# EAGLE library part MX4660-CN10 (library mx4660-cape)
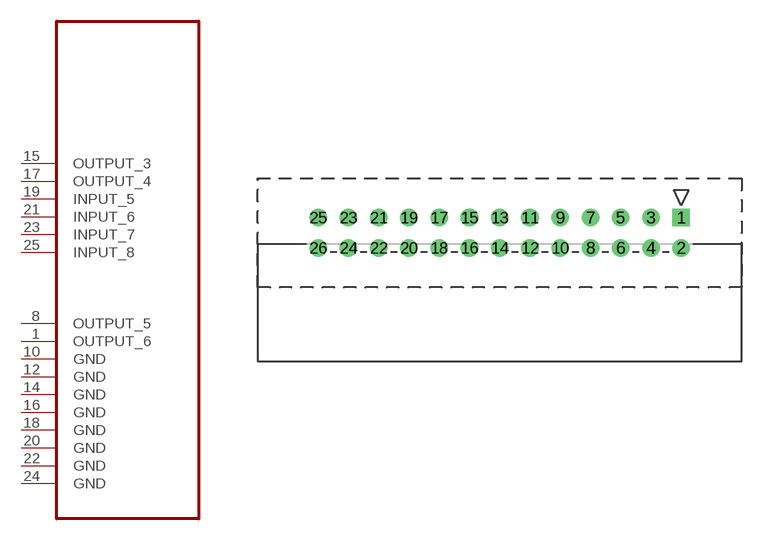
[diagram p6: symbol with the pads of HEADER-26-RA; footprint HEADER-26-RA]

Designator prefix J

## MX4660-CN10  [HEADER-26-RA]
1  OUTPUT_6  in
8  OUTPUT_5  in
10  GND  pwr
12  GND  pwr
14  GND  pwr
15  OUTPUT_3  in
16  GND  pwr
17  OUTPUT_4  in
18  GND  pwr
19  INPUT_5  out
20  GND  pwr
21  INPUT_6  out
22  GND  pwr
23  INPUT_7  out
24  GND  pwr
25  INPUT_8  out

## Footprint HEADER-26-RA (pad centres in mm)
drill 0.965 square: 1 15.24,12.065
drill 0.965: 2 15.24,9.525; 3 12.7,12.065; 4 12.7,9.525; 5 10.16,12.065; 6 10.16,9.525; 7 7.62,12.065; 8 7.62,9.525; 9 5.08,12.065; 10 5.08,9.525; 11 2.54,12.065; 12 2.54,9.525; 13 0,12.065; 14 0,9.525; 15 -2.54,12.065; 16 -2.54,9.525; 17 -5.08,12.065; 18 -5.08,9.525; 19 -7.62,12.065; 20 -7.62,9.525; 21 -10.16,12.065; 22 -10.16,9.525; 23 -12.7,12.065; 24 -12.7,9.525; 25 -15.24,12.065; 26 -15.24,9.525